# Altium schematic symbol library LPC11C24.SchLib: 1 symbol
Pins are listed as number, name and electrical type; pins without a type are passive.

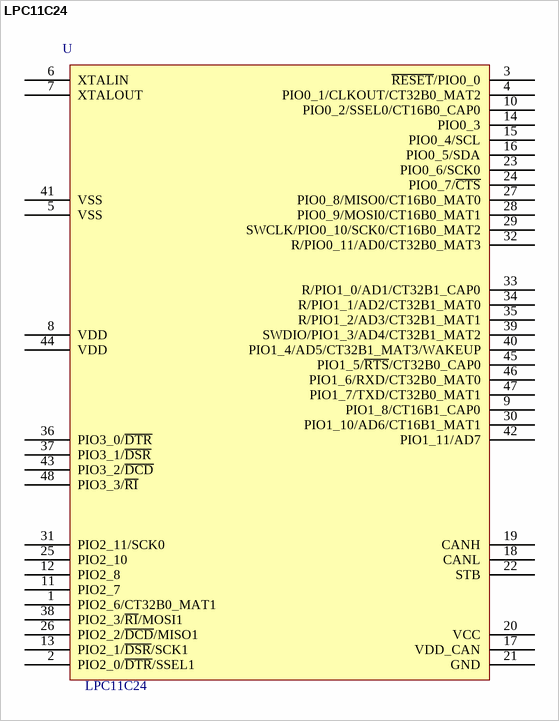
[diagram p0: symbol LPC11C24]

## LPC11C24
designator U  value LPC11C24  (hidden comment: *)
Manufacturer Code: LPC11C24FBD48/301; Manufacturer: NXP; Flash Memory: 32KB; RAM Memory: 8KB; Farnell Code: 2314754; Unit Price: 3,38 €; MOQ: 1
footprint LQFP-48
pins: 1 PIO2_6/CT32B0_MAT1, 2 PIO2_0/~{DTR}/SSEL1, 3 ~{RESET}/PIO0_0, 4 PIO0_1/CLKOUT/CT32B0_MAT2, 5 VSS, 6 XTALIN, 7 XTALOUT, 8 VDD, 9 PIO1_8/CT16B1_CAP0, 10 PIO0_2/SSEL0/CT16B0_CAP0, 11 PIO2_7, 12 PIO2_8, 13 PIO2_1/~{DSR}/SCK1, 14 PIO0_3, 15 PIO0_4/SCL, 16 PIO0_5/SDA, 17 VDD_CAN, 18 CANL, 19 CANH, 20 VCC, 21 GND, 22 STB, 23 PIO0_6/SCK0, 24 PIO0_7/~{CTS}, 25 PIO2_10, 26 PIO2_2/~{DCD}/MISO1, 27 PIO0_8/MISO0/CT16B0_MAT0, 28 PIO0_9/MOSI0/CT16B0_MAT1, 29 SWCLK/PIO0_10/SCK0/CT16B0_MAT2, 30 PIO1_10/AD6/CT16B1_MAT1, 31 PIO2_11/SCK0, 32 R/PIO0_11/AD0/CT32B0_MAT3, 33 R/PIO1_0/AD1/CT32B1_CAP0, 34 R/PIO1_1/AD2/CT32B1_MAT0, 35 R/PIO1_2/AD3/CT32B1_MAT1, 36 PIO3_0/~{DTR}, 37 PIO3_1/~{DSR}, 38 PIO2_3/~{RI}/MOSI1, 39 SWDIO/PIO1_3/AD4/CT32B1_MAT2, 40 PIO1_4/AD5/CT32B1_MAT3/WAKEUP, 41 VSS, 42 PIO1_11/AD7, 43 PIO3_2/~{DCD}, 44 VDD, 45 PIO1_5/~{RTS}/CT32B0_CAP0, 46 PIO1_6/RXD/CT32B0_MAT0, 47 PIO1_7/TXD/CT32B0_MAT1, 48 PIO3_3/~{RI}